# Altium schematic symbol library LM2940CT-5.0_NOPB.SchLib: 1 symbol
Pins are listed as number, name and electrical type; pins without a type are passive.

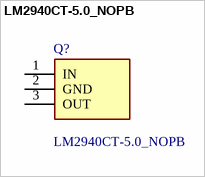
[diagram p0: symbol LM2940CT-5.0_NOPB]

## LM2940CT-5.0_NOPB
designator Q?
1A,5V,LDO Voltage Regulator,LM2940CT-5.0 Texas Instruments LM2940CT-5.0/NOPB, LDO Voltage Regulator, 1A, 5 V, 6.25  26 Vin, 3-Pin TO-220; Geometry.Height: 4.7mm; Mouser Part Number: 926-LM2940CT-5.0NOPB; Mouser Price/Stock: https://www.mouser.co.uk/ProductDetail/Texas-Instruments/LM2940CT-5.0-NOPB?qs=X1J7HmVL2ZHd4yipOGCVKg%3D%3D; Manufacturer_Name: Texas Instruments; Manufacturer_Part_Number: LM2940CT-5.0/NOPB; Datasheet Link: http://www.ti.com/lit/ds/symlink/lm2940c.pdf
footprint TO254P470X1028X1955-3P
pins: 1 IN, 2 GND, 3 OUT